# Altium integrated library 136.IntLib: 1 symbol
Pins are listed as number, name and electrical type; pins without a type are passive.

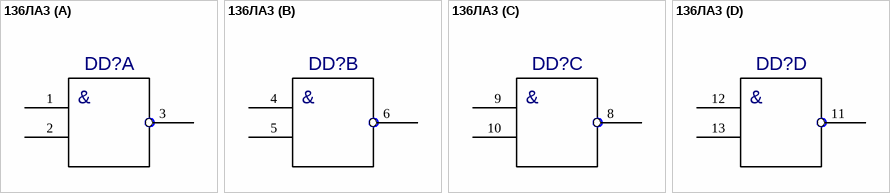
[diagram p0: symbol 136ЛА3]

## 136ЛА3
designator DD?  (value not drawn)
Value: *
footprint 401.14
pins on every part: 7 GND (power) hidden, 14 VCC (power) hidden
part A pins: 1, 2, 3
part B pins: 4 1, 5 2, 6 3
part C pins: 8 3, 9 1, 10 2
part D pins: 11 3, 12 1, 13 2
part A text: &
part B text: &
part C text: &
part D text: &